# Altium footprint library CL21C220JBANNNC.PcbLib: 3 footprints
Each footprint in its own frame and in the unit in brackets; x right, y up, seen from the top. Pads: shape width x height; smd on the part's side, far side on the other; paste and mask are expansions set on the pad; w line width, h text height; cw(c..) or ccw(c..) is an arc to the next point about the centre after c.
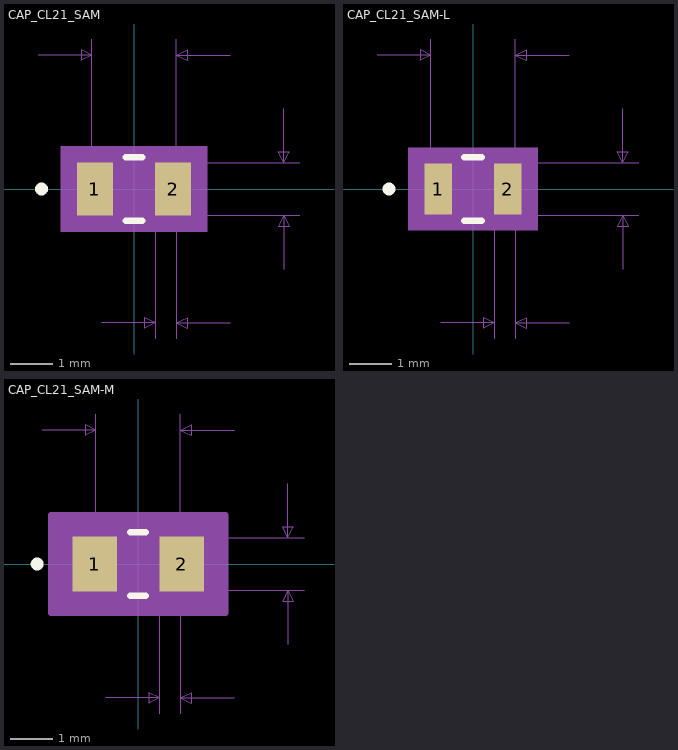
[diagram p0: the footprints below, top view; thin cyan lines are the x and y axes]

## CAP_CL21_SAM [mm]
pads (2):
  rect 0.85x1.25 smd paste+0 mask+0: 1(-0.925,0) 2(0.925,0)
Top Overlay:
  circle w0.152: c-2.188,0 r0.076
  lines w0.152: -0.192,-0.752 0.192,-0.752 ; -0.192,0.752 0.192,0.752
Mechanical 5:
  region: 1.731,-1.006 -1.731,-1.006 -1.731,1.006 1.731,1.006
Mechanical 7:
  lines w0.025: -2.27,3.165 -1,3.165 ; -1,0 -1,3.546 ; -0.77,-3.165 0.5,-3.165 ; 0,-0.625 3.921,-0.625 ; 0,0.625 3.921,0.625 ; 0.5,-3.546 0.5,0 ; 1,-3.546 1,0 1,3.546 ; 2.27,-3.165 1,-3.165 ; 2.27,3.165 1,3.165 ; 3.54,-1.895 3.54,-0.625 ; 3.54,1.895 3.54,0.625 ; -1,3.165 -1.254,3.292 -1.254,3.038 -1,3.165 ; 0.5,-3.165 0.246,-3.038 0.246,-3.292 0.5,-3.165 ; 1,-3.165 1.254,-3.038 1.254,-3.292 1,-3.165 ; 1,3.165 1.254,3.292 1.254,3.038 1,3.165 ; 3.54,-0.625 3.413,-0.879 3.667,-0.879 3.54,-0.625 ; 3.54,0.625 3.413,0.879 3.667,0.879 3.54,0.625
  text "Default Padstyle: r85_125" at -7.938,-7.483 h1.27
  text "Alternate 1 Padstyle: b152_229h76" at -10.477,-10.023 h1.27
  text "Alternate 2 Padstyle: b229_152h76" at -10.477,-12.563 h1.27
  text "0.049in/1.25mm" at 4.048,-0.318 h0.64
  text "0.079in/2mm" at -1.746,3.673 h0.64
  text "0.02in/0.5mm" at -1.155,-4.308 h0.64
Mechanical 13:
  circle w0: c-0.798,0 r0.076
  lines w0.025: -1,-0.625 -1,0.625 ; -1,-0.625 -0.5,-0.625 -0.5,0.625 -1,0.625 ; -1,-0.625 1,-0.625 ; -1,-0.625 -1,0.625 ; -1,0.625 1,0.625 ; 1,-0.625 0.5,-0.625 0.5,0.625 1,0.625 ; 1,-0.625 1,0.625 ; 1,-0.625 1,0.625
Mechanical 15:
  region: 1.604,-0.879 -1.604,-0.879 -1.604,0.879 1.604,0.879
  lines w0.152: -1.604,-0.879 -1.604,0.879 1.604,0.879 1.604,-0.879 -1.604,-0.879
3D body: height 0.25, standoff 0, extent 0,0 0.254,0.254

## CAP_CL21_SAM-L [mm]
pads (2):
  rect 0.65x1.2 smd paste+0 mask+0: 1(-0.825,0) 2(0.825,0)
Top Overlay:
  circle w0.152: c-1.988,0 r0.076
  lines w0.152: -0.204,-0.752 0.204,-0.752 ; -0.204,0.752 0.204,0.752
Mechanical 5:
  region: 1.531,-0.981 -1.531,-0.981 -1.531,0.981 1.531,0.981
Mechanical 7:
  lines w0.025: -2.27,3.165 -1,3.165 ; -1,0 -1,3.546 ; -0.77,-3.165 0.5,-3.165 ; 0,-0.625 3.921,-0.625 ; 0,0.625 3.921,0.625 ; 0.5,-3.546 0.5,0 ; 1,-3.546 1,0 1,3.546 ; 2.27,-3.165 1,-3.165 ; 2.27,3.165 1,3.165 ; 3.54,-1.895 3.54,-0.625 ; 3.54,1.895 3.54,0.625 ; -1,3.165 -1.254,3.292 -1.254,3.038 -1,3.165 ; 0.5,-3.165 0.246,-3.038 0.246,-3.292 0.5,-3.165 ; 1,-3.165 1.254,-3.038 1.254,-3.292 1,-3.165 ; 1,3.165 1.254,3.292 1.254,3.038 1,3.165 ; 3.54,-0.625 3.413,-0.879 3.667,-0.879 3.54,-0.625 ; 3.54,0.625 3.413,0.879 3.667,0.879 3.54,0.625
  text "Default Padstyle: r65_120" at -7.938,-7.458 h1.27
  text "Alternate 1 Padstyle: b152_229h76" at -10.477,-9.998 h1.27
  text "Alternate 2 Padstyle: b229_152h76" at -10.477,-12.538 h1.27
  text "0.049in/1.25mm" at 4.048,-0.318 h0.64
  text "0.079in/2mm" at -1.746,3.673 h0.64
  text "0.02in/0.5mm" at -1.155,-4.308 h0.64
Mechanical 13:
  circle w0: c-0.698,0 r0.076
  lines w0.025: -1,-0.625 -1,0.625 ; -1,-0.625 -0.5,-0.625 -0.5,0.625 -1,0.625 ; -1,-0.625 1,-0.625 ; -1,-0.625 -1,0.625 ; -1,0.625 1,0.625 ; 1,-0.625 0.5,-0.625 0.5,0.625 1,0.625 ; 1,-0.625 1,0.625 ; 1,-0.625 1,0.625
Mechanical 15:
  region: 1.252,-0.702 -1.252,-0.702 -1.252,0.702 1.252,0.702
  lines w0.152: -1.252,-0.702 -1.252,0.702 1.252,0.702 1.252,-0.702 -1.252,-0.702
3D body: height 0.25, standoff 0, extent 0,0 0.254,0.254

## CAP_CL21_SAM-M [mm]
pads (2):
  rect 1.05x1.3 smd paste+0 mask+0: 1(-1.025,0) 2(1.025,0)
Top Overlay:
  circle w0.152: c-2.388,0 r0.076
  lines w0.152: -0.183,-0.752 0.183,-0.752 ; -0.183,0.752 0.183,0.752
Mechanical 5:
  region: 1.931,-1.031 -1.931,-1.031 -1.931,1.031 1.931,1.031
Mechanical 7:
  lines w0.025: -2.27,3.165 -1,3.165 ; -1,0 -1,3.546 ; -0.77,-3.165 0.5,-3.165 ; 0,-0.625 3.921,-0.625 ; 0,0.625 3.921,0.625 ; 0.5,-3.546 0.5,0 ; 1,-3.546 1,0 1,3.546 ; 2.27,-3.165 1,-3.165 ; 2.27,3.165 1,3.165 ; 3.54,-1.895 3.54,-0.625 ; 3.54,1.895 3.54,0.625 ; -1,3.165 -1.254,3.292 -1.254,3.038 -1,3.165 ; 0.5,-3.165 0.246,-3.038 0.246,-3.292 0.5,-3.165 ; 1,-3.165 1.254,-3.038 1.254,-3.292 1,-3.165 ; 1,3.165 1.254,3.292 1.254,3.038 1,3.165 ; 3.54,-0.625 3.413,-0.879 3.667,-0.879 3.54,-0.625 ; 3.54,0.625 3.413,0.879 3.667,0.879 3.54,0.625
  text "Default Padstyle: r105_130" at -8.255,-7.508 h1.27
  text "Alternate 1 Padstyle: b152_229h76" at -10.477,-10.048 h1.27
  text "Alternate 2 Padstyle: b229_152h76" at -10.477,-12.588 h1.27
  text "0.049in/1.25mm" at 4.048,-0.318 h0.64
  text "0.079in/2mm" at -1.746,3.673 h0.64
  text "0.02in/0.5mm" at -1.155,-4.308 h0.64
Mechanical 13:
  circle w0: c-0.898,0 r0.076
  lines w0.025: -1,-0.625 -1,0.625 ; -1,-0.625 -0.5,-0.625 -0.5,0.625 -1,0.625 ; -1,-0.625 1,-0.625 ; -1,-0.625 -1,0.625 ; -1,0.625 1,0.625 ; 1,-0.625 0.5,-0.625 0.5,0.625 1,0.625 ; 1,-0.625 1,0.625 ; 1,-0.625 1,0.625
Mechanical 15:
  region: 2.058,-1.158 -2.058,-1.158 -2.058,1.158 2.058,1.158
  lines w0.152: -2.058,-1.158 -2.058,1.158 2.058,1.158 2.058,-1.158 -2.058,-1.158
3D body: height 0.25, standoff 0, extent 0,0 0.254,0.254